# Altium schematic symbol library SI4463.SchLib: 2 symbols
Pins are listed as number, name and electrical type; pins without a type are passive.

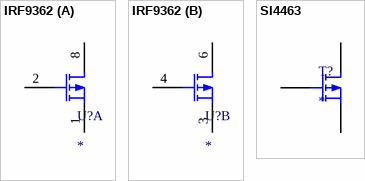
[diagram p0: symbols IRF9362 to SI4463]

## IRF9362
designator U?
footprint IRF9362
part A pins: 1 S1, 2 G1, 8 D1
part B pins: 3 S2, 4 G2, 6 D2

## SI4463
designator T?
footprint SI4463
pins: 1 D, 2 G, 3 S